# Altium footprint library FS8205A.PcbLib: 1 footprints
Each footprint in its own frame and in the unit in brackets; x right, y up, seen from the top. Pads: shape width x height; smd on the part's side, far side on the other; paste and mask are expansions set on the pad; w line width, h text height; cw(c..) or ccw(c..) is an arc to the next point about the centre after c.
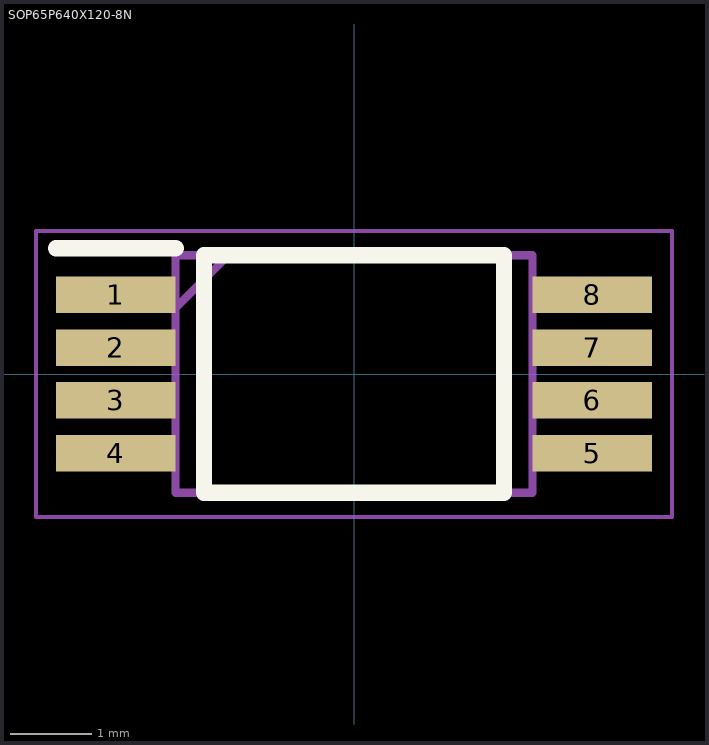
[diagram p0: the footprint, top view; thin cyan lines are the x and y axes]

## SOP65P640X120-8N [mm]
pads (8):
  rect 1.475x0.45 smd: 1(-2.938,0.975) 2(-2.938,0.325) 3(-2.938,-0.325) 4(-2.938,-0.975) 5(2.938,-0.975) 6(2.938,-0.325) 7(2.938,0.325) 8(2.938,0.975)
Top Overlay:
  lines w0.2: -3.675,1.55 -2.2,1.55 ; -1.85,-1.465 -1.85,1.465 1.85,1.465 1.85,-1.465 -1.85,-1.465
Mechanical 13:
  lines w0.1: -2.2,0.815 -1.55,1.465 ; -2.2,-1.465 -2.2,1.465 2.2,1.465 2.2,-1.465 -2.2,-1.465
Mechanical 15:
  lines w0.05: -3.925,-1.765 -3.925,1.765 3.925,1.765 3.925,-1.765 -3.925,-1.765
3D body "FS8205A.stp": height 1.2, standoff 0, extent -3.2,-1.465 3.2,1.465